# EAGLE library part REF3240 (library graftel-internal-ic)
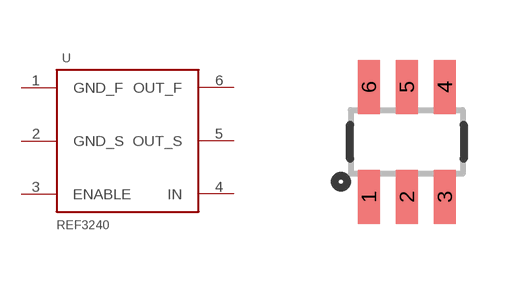
[diagram p43: symbol with the pads of SOT23-6; footprint SOT23-6]

Designator prefix U

## REF3240  [SOT23-6]
1  GND_F
2  GND_S
3  ENABLE
4  IN
5  OUT_S
6  OUT_F

## Footprint SOT23-6 (pad centres in mm)
smd 0.55 x 1.35: 1 -0.95,-1.375; 2 0,-1.375; 3 0.95,-1.375; 4 0.95,1.375; 5 0,1.375; 6 -0.95,1.375